# Altium schematic symbol library 850B_OptionBOM.Schlib: 1 symbol
Pins are listed as number, name and electrical type; pins without a type are passive.

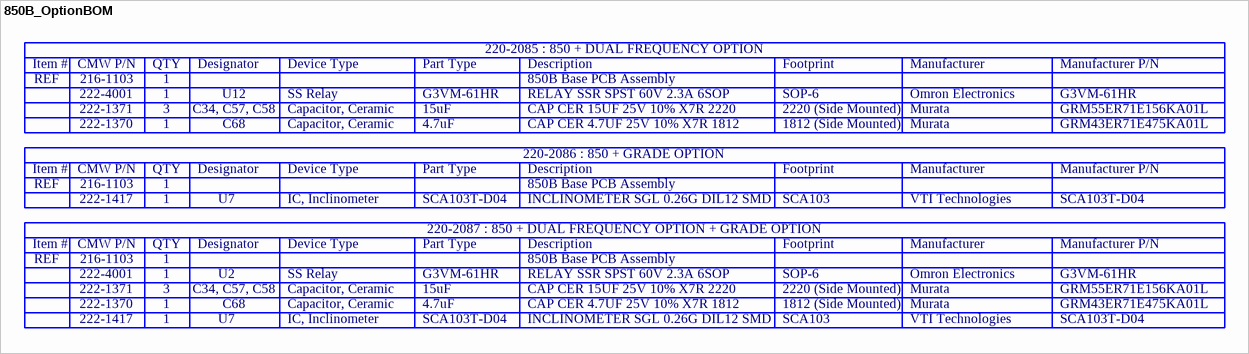
[diagram p0: symbol 850B_OptionBOM]

## 850B_OptionBOM
designator OT1
text: 220-2085 : 850 + DUAL FREQUENCY OPTION; Item #; CMW P/N; QTY; Designator; Device Type; Part Type; Description; Footprint; Manufacturer; Manufacturer P/N; REF; 216-1103; 1; 850B Base PCB Assembly; 222-4001; U12; SS Relay; G3VM-61HR; RELAY SSR SPST 60V 2.3A 6SOP; SOP-6; Omron Electronics; 222-1371; 3; C34, C57, C58; Capacitor, Ceramic; 15uF; CAP CER 15UF 25V 10% X7R 2220; 2220 (Side Mounted); Murata; GRM55ER71E156KA01L; 222-1370; C68; 4.7uF; CAP CER 4.7UF 25V 10% X7R 1812; 1812 (Side Mounted); GRM43ER71E475KA01L; 220-2086 : 850 + GRADE OPTION; 222-1417; U7; IC, Inclinometer; SCA103T-D04; INCLINOMETER SGL 0.26G DIL12 SMD; SCA103; VTI Technologies; 220-2087 : 850 + DUAL FREQUENCY OPTION + GRADE OPTION; U2